# EAGLE library part PIC33EP256MU806 (library 1dah)
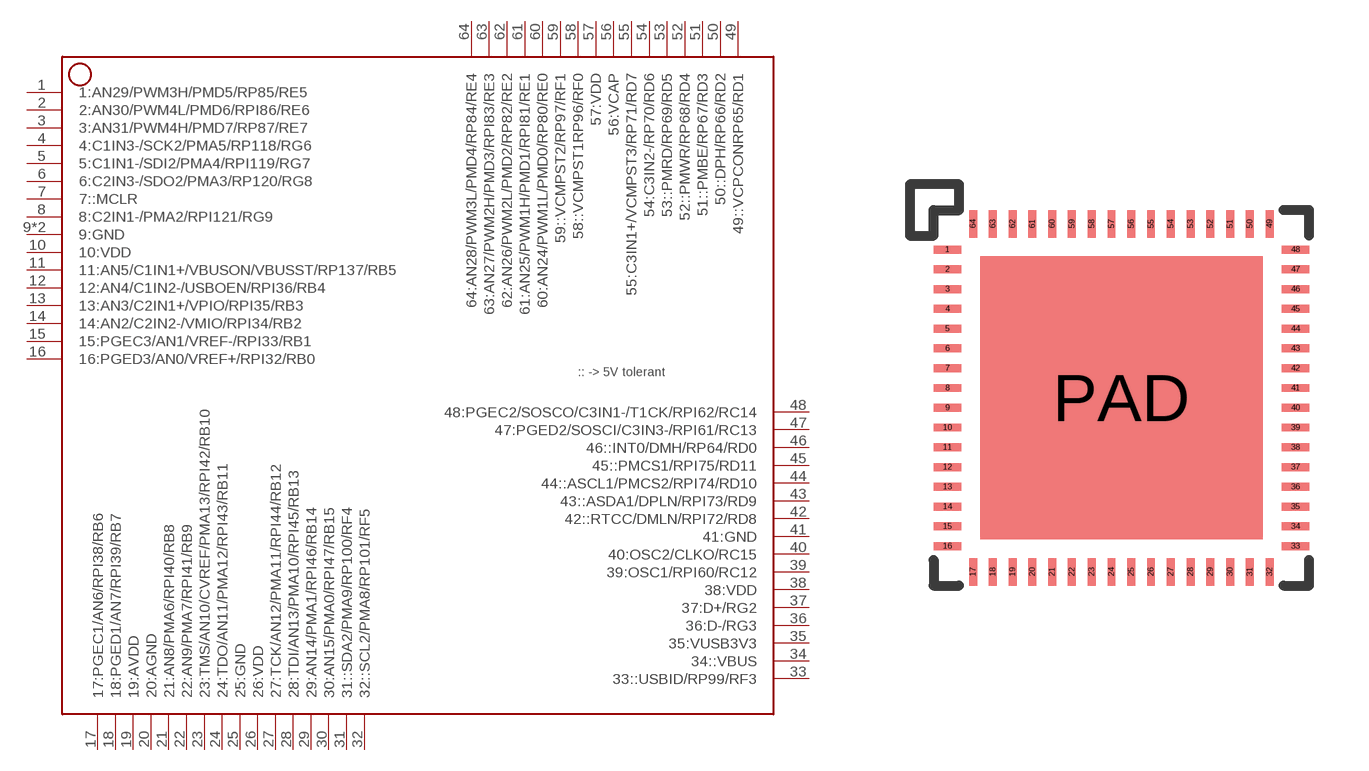
[diagram p55: symbol with the pads of QFN-64; footprint QFN-64]

Designator prefix -

## PIC33EP256MU806  [QFN-64]
1  1:AN29/PWM3H/PMD5/RP85/RE5
2  2:AN30/PWM4L/PMD6/RPI86/RE6
3  3:AN31/PWM4H/PMD7/RP87/RE7
4  4:C1IN3-/SCK2/PMA5/RP118/RG6
5  5:C1IN1-/SDI2/PMA4/RPI119/RG7
6  6:C2IN3-/SDO2/PMA3/RP120/RG8
7  7::MCLR
8  8:C2IN1-/PMA2/RPI121/RG9
9  9:GND
10  10:VDD
11  11:AN5/C1IN1+/VBUSON/VBUSST/RP137/RB5
12  12:AN4/C1IN2-/USBOEN/RPI36/RB4
13  13:AN3/C2IN1+/VPIO/RPI35/RB3
14  14:AN2/C2IN2-/VMIO/RPI34/RB2
15  15:PGEC3/AN1/VREF-/RPI33/RB1
16  16:PGED3/AN0/VREF+/RPI32/RB0
17  17:PGEC1/AN6/RPI38/RB6
18  18:PGED1/AN7/RPI39/RB7
19  19:AVDD
20  20:AGND
21  21:AN8/PMA6/RPI40/RB8
22  22:AN9/PMA7/RPI41/RB9
23  23:TMS/AN10/CVREF/PMA13/RPI42/RB10
24  24:TDO/AN11/PMA12/RPI43/RB11
25  25:GND
26  26:VDD
27  27:TCK/AN12/PMA11/RPI44/RB12
28  28:TDI/AN13/PMA10/RPI45/RB13
29  29:AN14/PMA1/RPI46/RB14
30  30:AN15/PMA0/RPI47/RB15
31  31::SDA2/PMA9/RP100/RF4
32  32::SCL2/PMA8/RP101/RF5
33  33::USBID/RP99/RF3
34  34::VBUS
35  35:VUSB3V3
36  36:D-/RG3
37  37:D+/RG2
38  38:VDD
39  39:OSC1/RPI60/RC12
40  40:OSC2/CLKO/RC15
41  41:GND
42  42::RTCC/DMLN/RPI72/RD8
43  43::ASDA1/DPLN/RPI73/RD9
44  44::ASCL1/PMCS2/RPI74/RD10
45  45::PMCS1/RPI75/RD11
46  46::INT0/DMH/RP64/RD0
47  47:PGED2/SOSCI/C3IN3-/RPI61/RC13
48  48:PGEC2/SOSCO/C3IN1-/T1CK/RPI62/RC14
49  49::VCPCONRP65/RD1
50  50::DPH/RP66/RD2
51  51::PMBE/RP67/RD3
52  52::PMWR/RP68/RD4
53  53::PMRD/RP69/RD5
54  54:C3IN2-/RP70/RD6
55  55:C3IN1+/VCMPST3/RP71/RD7
56  56:VCAP
57  57:VDD
58  58::VCMPST1RP96/RF0
59  59::VCMPST2/RP97/RF1
60  60:AN24/PWM1L/PMD0/RP80/RE0
61  61:AN25/PWM1H/PMD1/RPI81/RE1
62  62:AN26/PWM2L/PMD2/RP82/RE2
63  63:AN27/PWM2H/PMD3/RPI83/RE3
64  64:AN28/PWM3L/PMD4/RP84/RE4
PAD  9:GND

## Footprint QFN-64 (pad centres in mm)
smd 0.7 x 0.2: 1 -4.4,3.75; 2 -4.4,3.25; 3 -4.4,2.75; 4 -4.4,2.25; 5 -4.4,1.75; 6 -4.4,1.25; 7 -4.4,0.75; 8 -4.4,0.25; 9 -4.4,-0.25; 10 -4.4,-0.75; 11 -4.4,-1.25; 12 -4.4,-1.75; 13 -4.4,-2.25; 14 -4.4,-2.75; 15 -4.4,-3.25; 16 -4.4,-3.75; 33 4.4,-3.75; 34 4.4,-3.25; 35 4.4,-2.75; 36 4.4,-2.25; 37 4.4,-1.75; 38 4.4,-1.25; 39 4.4,-0.75; 40 4.4,-0.25; 41 4.4,0.25; 42 4.4,0.75; 43 4.4,1.25; 44 4.4,1.75; 45 4.4,2.25; 46 4.4,2.75; 47 4.4,3.25; 48 4.4,3.75
smd 0.2 x 0.7: 17 -3.75,-4.4; 18 -3.25,-4.4; 19 -2.75,-4.4; 20 -2.25,-4.4; 21 -1.75,-4.4; 22 -1.25,-4.4; 23 -0.75,-4.4; 24 -0.25,-4.4; 25 0.25,-4.4; 26 0.75,-4.4; 27 1.25,-4.4; 28 1.75,-4.4; 29 2.25,-4.4; 30 2.75,-4.4; 31 3.25,-4.4; 32 3.75,-4.4; 49 3.75,4.4; 50 3.25,4.4; 51 2.75,4.4; 52 2.25,4.4; 53 1.75,4.4; 54 1.25,4.4; 55 0.75,4.4; 56 0.25,4.4; 57 -0.25,4.4; 58 -0.75,4.4; 59 -1.25,4.4; 60 -1.75,4.4; 61 -2.25,4.4; 62 -2.75,4.4; 63 -3.25,4.4; 64 -3.75,4.4
smd 7.15 x 7.15: PAD 0,0